# Altium schematic symbol library TPS22942DCKR_ic_pwr_switch_p_chan.SchLib: 2 symbols
Pins are listed as number, name and electrical type; pins without a type are passive.

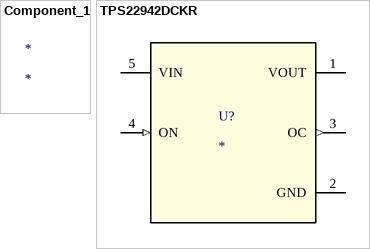
[diagram p0: symbols Component_1 to TPS22942DCKR]

## Component_1
designator *

## TPS22942DCKR
designator U?
No Description Available; Mfr_Name: Texas Instruments; PartNumber: TPS22942DCK; CompType: IC; TYPE: TYPE; RefDes: RefDes; PackageReference: DCK0005A; MountType: SMT; RoHS: Y; Manufacturer: Texas Instruments
footprint DCK0005A
pins: 1 VOUT (power), 2 GND (power), 3 OC (out), 4 ON (in), 5 VIN (power)